# EAGLE library part HEADER-1X12-KEYPAD (library teelsys-0.2)
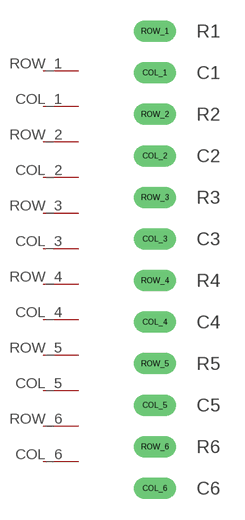
[diagram p16: symbol with the pads of HEADER-1X12-KEYPAD; footprint HEADER-1X12-KEYPAD]

Designator prefix -

## HEADER-1X12-KEYPAD  [HEADER-1X12-KEYPAD]
COL_1  COL_1
COL_2  COL_2
COL_3  COL_3
COL_4  COL_4
COL_5  COL_5
COL_6  COL_6
ROW_1  ROW_1
ROW_2  ROW_2
ROW_3  ROW_3
ROW_4  ROW_4
ROW_5  ROW_5
ROW_6  ROW_6

## Footprint HEADER-1X12-KEYPAD (pad centres in mm)
drill 0.8 long: COL_1 0,11.43; COL_2 0,6.35; COL_3 0,1.27; COL_4 0,-3.81; COL_5 0,-8.89; COL_6 0,-13.97; ROW_1 0,13.97; ROW_2 0,8.89; ROW_3 0,3.81; ROW_4 0,-1.27; ROW_5 0,-6.35; ROW_6 0,-11.43